# Altium schematic symbol library HX711.SCHLIB: 1 symbol
Pins are listed as number, name and electrical type; pins without a type are passive.

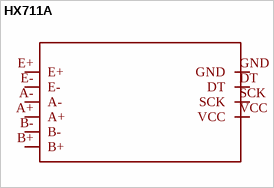
[diagram p0: symbol HX711A]

## HX711A
designator ?
GateName_1: G$1; SymbolName_1: HX711; DeviceName: A; LibraryName: HX711; DeviceSetName: HX711; Package: HX711
footprint Model Name (Model Description)
pins: A+ (io), A- (io), B+ (io), B- (io), DT (io), E+ (io), E- (io), GND (io), SCK (io), VCC (io)